# Altium schematic symbol library CONN-STD-7P_1ROW.SchLib: 1 symbol
Pins are listed as number, name and electrical type; pins without a type are passive.

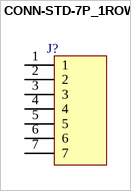
[diagram p0: symbol CONN-STD-7P_1ROW]

## CONN-STD-7P_1ROW
designator J?  (value not drawn)
pins: 1, 2, 3, 4, 5, 6, 7